# EAGLE library part ADG704BRMZ (library PassiveLiFiTag)
IC SWITCH SP4T X 1 4OHM 10MSOP
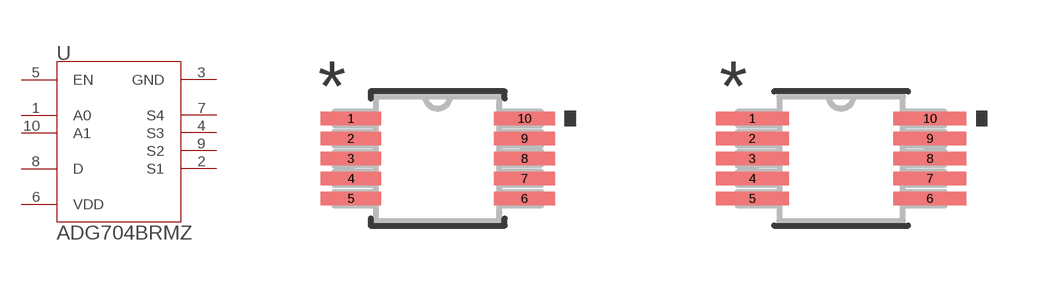
[diagram p0: symbol with the pads of RM_10_ADI; footprints RM_10_ADI, RM_10_ADI-M]

Designator prefix U

## ADG704BRMZ (COPYRIGHT: Copyright (C) 2023 Ultra Librarian. All rights reserved.; DIGIKEY_PART_NUMBER_1: ADG704BRMZ-ND; MANUFACTURER_PART_NUMBER: ADG704BRMZ; MFR_NAME: Analog Devices Inc)  [RM_10_ADI]
1  A0  pas
2  S1  pas
3  GND  pas
4  S3  pas
5  EN  pas
6  VDD  pwr
7  S4  pas
8  D  pas
9  S2  pas
10  A1  pas

## ADG704BRMZRM_10_ADI-M (COPYRIGHT: Copyright (C) 2023 Ultra Librarian. All rights reserved.; DIGIKEY_PART_NUMBER_1: ADG704BRMZ-ND; MANUFACTURER_PART_NUMBER: ADG704BRMZ; MFR_NAME: Analog Devices Inc)  [RM_10_ADI-M]
Pads as for RM_10_ADI

## ADG704BRMZRM_10_ADI-L (COPYRIGHT: Copyright (C) 2023 Ultra Librarian. All rights reserved.; DIGIKEY_PART_NUMBER_1: ADG704BRMZ-ND; MANUFACTURER_PART_NUMBER: ADG704BRMZ; MFR_NAME: Analog Devices Inc)  [RM_10_ADI-L]
Pads as for RM_10_ADI

## Footprint RM_10_ADI (pad centres in mm)
smd 1.524 x 0.33: 1 -2.172,1; 2 -2.172,0.5; 3 -2.172,0; 4 -2.172,-0.5; 5 -2.172,-1; 6 2.172,-1; 7 2.172,-0.5; 8 2.172,0; 9 2.172,0.5; 10 2.172,1

## Footprint RM_10_ADI-M (pad centres in mm)
smd 1.829 x 0.33: 1 -2.223,1; 2 -2.223,0.5; 3 -2.223,0; 4 -2.223,-0.5; 5 -2.223,-1; 6 2.223,-1; 7 2.223,-0.5; 8 2.223,0; 9 2.223,0.5; 10 2.223,1

## Footprint RM_10_ADI-L (pad centres in mm)
smd 1.219 x 0.279: 1 -2.121,1; 2 -2.121,0.5; 3 -2.121,0; 4 -2.121,-0.5; 5 -2.121,-1; 6 2.121,-1; 7 2.121,-0.5; 8 2.121,0; 9 2.121,0.5; 10 2.121,1